# Altium footprint library Package_TO_SOT_SMD.PcbLib: 132 footprints (part 9 of 9)
Each footprint in its own frame and in the unit in brackets; x right, y up, seen from the top. Pads: shape width x height; smd on the part's side, far side on the other; paste and mask are expansions set on the pad; w line width, h text height; cw(c..) or ccw(c..) is an arc to the next point about the centre after c.
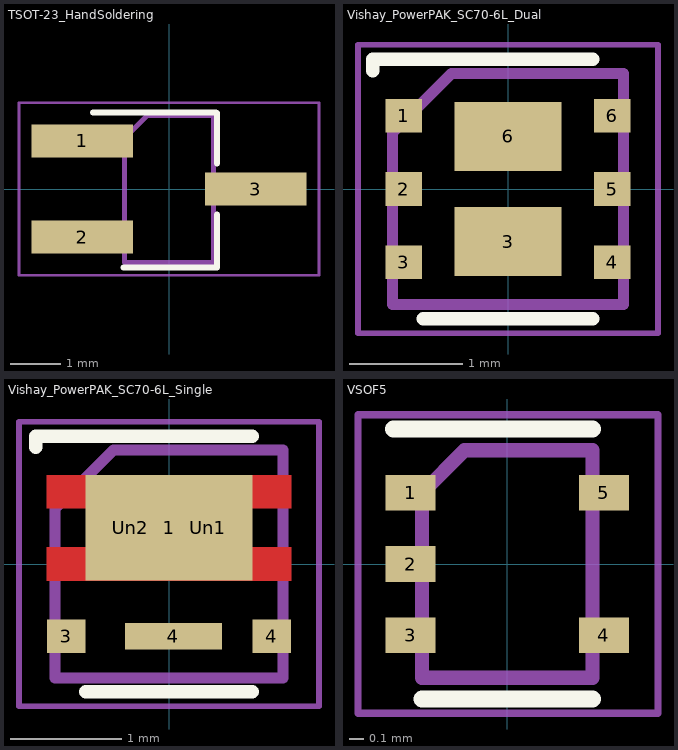
[diagram p8: the footprints below, top view; thin cyan lines are the x and y axes]

## TSOT-23_HandSoldering [mm]
pads (3):
  rect 2x0.65 smd: 1(-1.71,0.95) 2(-1.71,-0.95) 3(1.71,0)
F.SilkS:
  lines w0.12: -1.5,1.51 0.93,1.51 ; -0.9,-1.55 0.95,-1.55 0.95,-0.5 ; 0.95,0.5 0.95,1.5
F.CrtYd:
  lines w0.05: -2.96,-1.7 -2.96,1.7 2.96,1.7 2.96,-1.7 -2.96,-1.7
F.Fab:
  lines w0.1: -0.88,-1.45 0.88,-1.45 0.88,1.45 -0.43,1.45 -0.88,1 -0.88,-1.45
  text "'.Designator'" at 0.42,-2.023 h0.5

## Vishay_PowerPAK_SC70-6L_Dual [mm]
pads (8):
  rect 0.325x0.3 smd: 1(-0.925,0.65) 2(-0.925,0) 3(-0.925,-0.65) 4(0.925,-0.65) 5(0.925,0) 6(0.925,0.65)
  rect 0.95x0.613 smd: 3(0,-0.466) 6(0,0.466)
F.SilkS:
  lines w0.12: -1.2,1.05 -1.2,1.15 0.75,1.15 ; -0.75,-1.15 0.75,-1.15
F.CrtYd:
  lines w0.05: -1.33,-1.28 -1.33,1.28 1.33,1.28 1.33,-1.28 -1.33,-1.28
F.Fab:
  lines w0.1: -1.025,-1.025 1.025,-1.025 1.025,1.025 -0.5,1.025 -1.025,0.5 -1.025,-1.025
  text "'.Designator'" at -1.659,-0.376 h0.4

## Vishay_PowerPAK_SC70-6L_Single [mm]
pads (6):
  rect 1.5x0.95 smd: 1(0,0.325)
  rect 0.35x0.3 smd: 3(-0.925,-0.65) 4(0.925,-0.65)
  rect 0.87x0.235 smd: 4(0.04,-0.65)
  rect 0.6x0.8 on Top Paste: Un1(0.35,0.325) Un2(-0.35,0.325)
F.Cu:
  region: 1.1,0.5 -1.1,0.5 -1.1,0.8 1.1,0.8
  region: 1.1,-0.15 -1.1,-0.15 -1.1,0.15 1.1,0.15
F.SilkS:
  lines w0.12: -1.2,1.05 -1.2,1.15 0.75,1.15 ; -0.75,-1.15 0.75,-1.15
F.Mask:
  region: 1.1,0.5 -1.1,0.5 -1.1,0.8 1.1,0.8
  region: 1.1,-0.15 -1.1,-0.15 -1.1,0.15 1.1,0.15
F.CrtYd:
  lines w0.05: -1.35,-1.28 -1.35,1.28 1.35,1.28 1.35,-1.28 -1.35,-1.28
F.Fab:
  lines w0.1: -1.025,-1.025 -1.025,0.5 -0.5,1.025 1.025,1.025 1.025,-1.025 -1.025,-1.025
  text "'.Designator'" at -1.659,-0.376 h0.4

## VSOF5 [mm]
pads (5):
  rect 0.35x0.25 smd: 1(-0.68,0.5) 2(-0.68,0) 3(-0.68,-0.5) 4(0.68,-0.5) 5(0.68,0.5)
F.SilkS:
  lines w0.12: -0.8,0.95 0.6,0.95 ; -0.6,-0.95 0.6,-0.95
F.CrtYd:
  lines w0.05: -1.05,-1.05 1.06,-1.05 1.06,1.05 -1.05,1.05 -1.05,-1.05
F.Fab:
  lines w0.1: -0.6,-0.8 -0.6,0.5 -0.3,0.8 0.6,0.8 0.6,-0.8 -0.6,-0.8
  text "'.Designator'" at 0.339,-1.621 h0.4